# Altium footprint library CG04874-8M.PcbLib: 1 footprints
Each footprint in its own frame and in the unit in brackets; x right, y up, seen from the top. Pads: shape width x height; smd on the part's side, far side on the other; paste and mask are expansions set on the pad; w line width, h text height; cw(c..) or ccw(c..) is an arc to the next point about the centre after c.
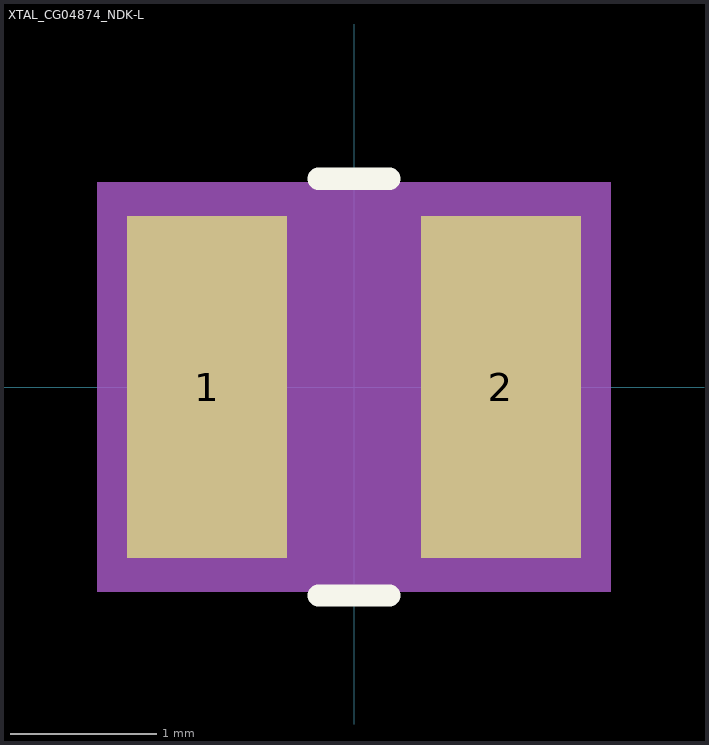
[diagram p0: the footprint, top view; thin cyan lines are the x and y axes]

## XTAL_CG04874_NDK-L [mil]
pads (2):
  rect 43x92 smd paste+0 mask+0: 1(-39.5,0) 2(39.5,0)
Top Overlay:
  lines w6: -9.54,-56 9.54,-56 ; -9.54,56 9.54,56
Mechanical 13:
  circle w0: c-18,0 r3
  lines w0: -12,51 ccw(c0,51) 12,51
  lines w1: -65,-51 65,-51 65,51 -65,51 -65,-51
Mechanical 15:
  region: -69,-50 -69,50 -69,55 69,55 69,50 69,-50 69,-55 -69,-55
3D body "XTAL_CG04874_NDK.step": height 39.09, standoff 0, extent -65,-50.98 65,50.98